# Altium footprint library Con USB.PcbLib: 34 footprints (part 3 of 3)
Each footprint in its own frame and in the unit in brackets; x right, y up, seen from the top. Pads: shape width x height; smd on the part's side, far side on the other; paste and mask are expansions set on the pad; w line width, h text height; cw(c..) or ccw(c..) is an arc to the next point about the centre after c.
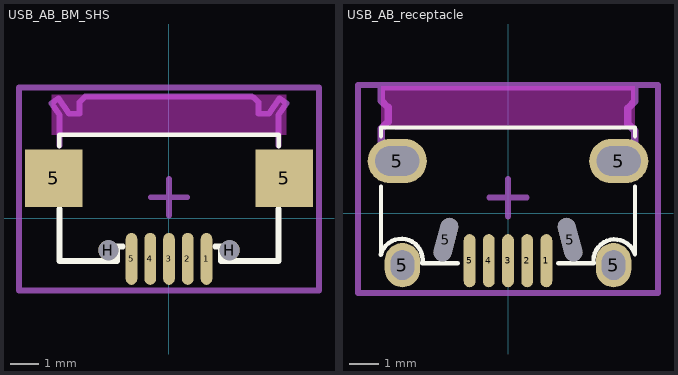
[diagram p2: the footprints below, top view; thin cyan lines are the x and y axes]

## USB_AB_BM_SHS [mm] "USB Micro AB - Standard (Bottom mount), Shell SMT DESIGNER ABBAS BASEREH"
height 2.8
pads (9):
  oval 0.4x1.8 smd: 1(1.3,-1.4) 2(0.65,-1.4) 3(0,-1.4) 4(-0.65,-1.4) 5(-1.3,-1.4)
  rect 2x2 smd: 5(-4,1.4) 5(4,1.4)
  round 0.7 hole 0.7: H(-2.1,-1.1) H(2.1,-1.1)
Top Overlay:
  lines w0.15: -3.8,2.5 -3.8,2.9 3.8,2.9 3.8,2.5
  lines w0.2: -3.8,0.33 -3.8,-0.17 -3.8,-1.47 -1.9,-1.47 -1.8,-1.47 -1.8,-0.97 -1.6,-0.97 ; 1.6,-0.97 1.8,-0.97 1.8,-1.47 1.9,-1.47 3.8,-1.47 3.8,-0.17 3.8,0.33
Keep-Out Layer:
  board cut-out: -4.064,2.9 -4.064,4.291 4.064,4.291 4.064,2.9
Mechanical 1:
  lines w0.1: -3.8,2.894 3.8,2.894
  lines w0.2: -3.8,2.53 -3.8,3.591 -4.078,3.992 -3.831,4.163 -3.462,3.63 -3.1,3.63 -3.1,4.03 -2.9,4.23 2.87,4.23 2.9,4.2 2.93,4.2 3.1,4.03 3.1,3.63 3.462,3.63 3.831,4.163 4.078,3.992 3.8,3.591 3.8,2.53
  text "PCB EDGE" at -2.413,3.148 h0.7
Mechanical 15:
  lines w0.2: -0.635,0.735 0.635,0.735 ; 0,0.1 0,1.37 ; -5.2,-2.5 5.2,-2.5 5.2,4.545 -5.2,4.545 -5.2,-2.5
3D body "65944.stEp": height 2.75, standoff -0.55, extent -4,-1.78 4,4.264

## USB_AB_receptacle [mm] "USB Micro AB - receptacle  DESIGNER ABBAS BASEREH"
height 2.8
pads (11):
  oval 0.4x1.8 smd mask+0.05: 1(1.3,-1.612) 2(0.65,-1.612) 3(0,-1.612) 4(-0.65,-1.612) 5(-1.3,-1.612)
  oval 2x1.5 hole 1 slot 1.5 at 0 deg mask+0.05: 5(-3.75,1.763) 5(3.75,1.763)
  oval 1.2x1.5 hole 0.8 slot 1 at 90 deg mask+0.05: 5(-3.575,-1.762) 5(3.575,-1.762)
  oval 1.5x0.6 / inner oval 1.5x0.6 / far side oval 2x1 hole 0.6 slot 1.5 at 75 deg rot 75 mask+0.05: 5(-2.1,-0.9)
  oval 1.5x0.6 / inner oval 1.5x0.6 / far side oval 2x1 hole 0.6 slot 1.5 at 105 deg rot 105 mask+0.05: 5(2.1,-0.9)
Top Overlay:
  lines w0.15: -4.307,-1.416 cw(c-3.609,-1.587) -2.9,-1.7 -1.7,-1.7 ; -4.3,-1.4 -4.3,0.9 ; -4.3,2.6 -4.3,2.888 -4.288,2.9 4.3,2.9 4.3,2.6 ; 1.7,-1.7 2.9,-1.7 cw(c3.613,-1.61) 4.3,-1.4 4.3,0.9
Keep-Out Layer:
  board cut-out: -4.3,2.888 -4.3,4.3 4.3,4.3 4.3,2.888
Mechanical 1:
  lines w0.1: -3.8,2.882 3.8,2.882
  text "PCB EDGE" at -1.8,3.088 h0.5
Mechanical 13:
  lines w0.254: -4.3,2.388 -4.3,2.863 -4.064,3.099 -4.064,3.577 -4.3,3.813 -4.3,4.288 4.3,4.288 4.3,3.788 4.064,3.552 4.064,3.024 4.3,2.788 4.3,2.288
Mechanical 15:
  lines w0.2: -0.635,0.523 0.635,0.523 ; 0,-0.112 0,1.158 ; -5.08,-2.7 5.08,-2.7 5.08,4.333 -5.08,4.333 -5.08,-2.7
3D body "48281.stEp": height 2.8, standoff -0.6, extent -4.325,-1.512 4.325,4.386